# EAGLE library part RFM22 (library X893)
http://www.terraelectronica.ru/pdf/HOPERF/RFM22.pdf
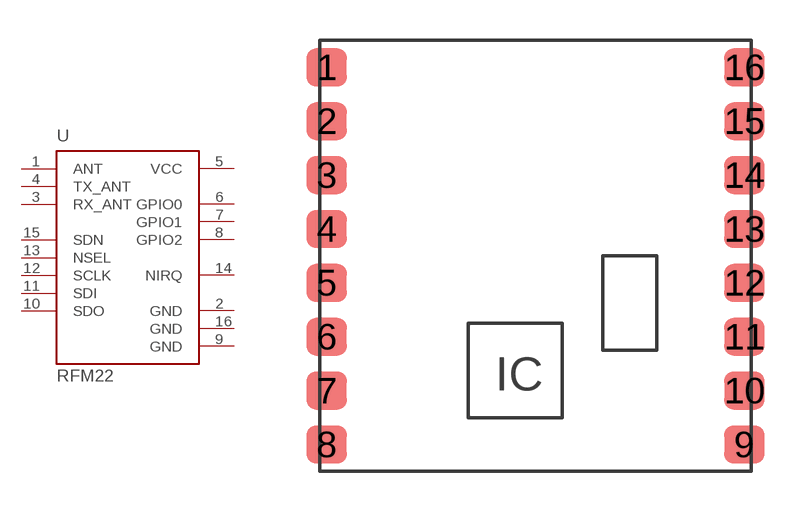
[diagram p48: symbol with the pads of RFM2X; footprint RFM2X]

Designator prefix U

## RFM22-433-S2  [RFM2X]
1  ANT  pas
2  GND  pwr
3  RX_ANT  in
4  TX_ANT  in
5  VCC  pwr
6  GPIO0
7  GPIO1
8  GPIO2
9  GND  pwr
10  SDO  out
11  SDI  in
12  SCLK  in
13  NSEL  in
14  NIRQ  in
15  SDN  in
16  GND  pwr

## Footprint RFM2X (pad centres in mm)
smd 1.5 x 1.4: 1 -7.75,7; 2 -7.75,5; 3 -7.75,3; 4 -7.75,1; 5 -7.75,-1; 6 -7.75,-3; 7 -7.75,-5; 8 -7.75,-7; 9 7.75,-7; 10 7.75,-5; 11 7.75,-3; 12 7.75,-1; 13 7.75,1; 14 7.75,3; 15 7.75,5; 16 7.75,7